# Altium schematic symbol library Solar-Charger.SchLib: 37 symbols
Pins are listed as number, name and electrical type; pins without a type are passive.

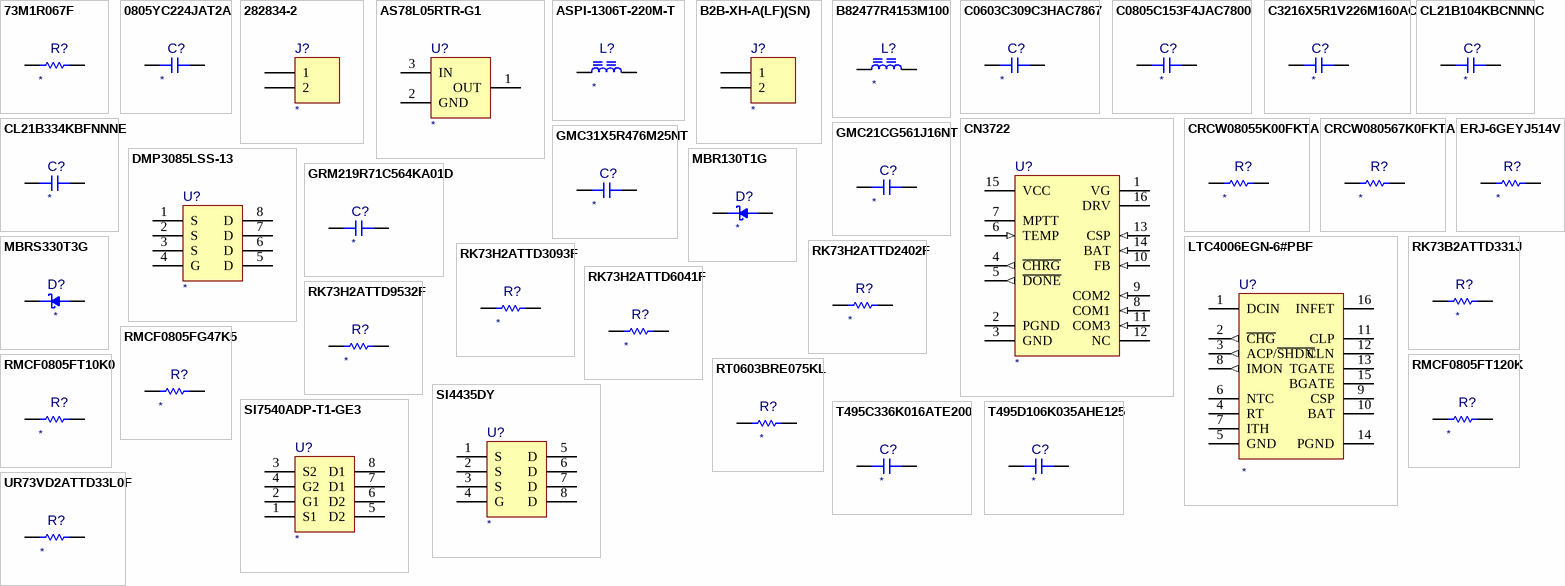
[diagram p0: symbols 73M1R067F to UR73VD2ATTD33L0F]

## 73M1R067F
designator R?
67 mOhms ±1% 1W Chip Resistor; Manufacturer: CTS Resistor Products; Value: *; Voltage: *; Tolerance: *; ComponentLink1Description: Datasheet; ComponentLink1URL: https://www.ctscorp.com/wp-content/uploads/73M1.pdf; Current Rating: *; Part Number: *
footprint RESC620310X120N (Chip Resistor, 2-Leads, Body 2.05x1.25mm, IPC Medium Density)
pins: 1, 2

## 0805YC224JAT2A
designator C?
0.22 µF ±5% 16V Ceramic Capacitor X7R; Manufacturer: KYOCERA AVX; Value: *; Voltage: *; Tolerance: *; ComponentLink1Description: Datasheet; ComponentLink1URL: https://datasheets.kyocera-avx.com/X7RDielectric.pdf; Current Rating: *; Part Number: *
footprint CAPC201125X094N (0805) (Chip Capacitor, 2-Leads, Body 2.01x1.25mm, IPC Medium Density)
pins: 1, 2

## 282834-2
designator J?
2 Position Wire to Board Terminal Block Horizontal with Board 0.100" (2.54mm) Through Hole; Manufacturer: TE Connectivity AMP Connectors; Value: *; Voltage: *; Tolerance: *; ComponentLink1Description: Datasheet; ComponentLink1URL: https://www.te.com/commerce/DocumentDelivery/DDEController?Action=srchrtrv&DocNm=282834&DocType=Customer+Drawing&DocLang=English; Current Rating: *; Part Number: *
footprint 282834-2 (2 Position Wire to Board Terminal Block Horizontal with Board 0.100" (2.54mm) Through Hole)
pins: 1, 2

## AS78L05RTR-G1
designator U?
Linear Voltage Regulator IC Positive Fixed 1 Output 100mA; Manufacturer: Diodes Incorporated; Value: *; Voltage: *; Tolerance: *; ComponentLink1Description: Datasheet; ComponentLink1URL: https://media.digikey.com/pdf/Data%20Sheets/Diodes%20PDFs/AS78Lxx_Aug2013_DS.pdf; Current Rating: *; Part Number: *
footprint SOT150P288X160-3N (SOT89) (SOT89, 3-Leads, Body 4.50x2.45mm, Pitch 1.50mm, Lead Span 2.9mm, IPC Medium Density)
pins: 1 OUT (power), 2 GND (power), 3 IN (power)

## ASPI-1306T-220M-T
designator L?
22 µH Unshielded Wirewound Inductor 3.5 A 47mOhm Max Nonstandard; Manufacturer: Abracon LLC; Value: *; Voltage: *; Tolerance: *; ComponentLink1Description: Datasheet; ComponentLink1URL: https://abracon.com/Magnetics/power/ASPI-1306T.pdf; Current Rating: *; Part Number: *
footprint INDC185152X711N (Chip Inductor, 2-Leads, Body 2.01x1.25mm, IPC Medium Density)
pins: 1, 2

## B2B-XH-A(LF)(SN)
designator J?
Connector Header Through Hole 2 position 0.098" (2.50mm); Manufacturer: JST Sales America Inc.; Value: *; Voltage: *; Tolerance: *; ComponentLink1Description: Datasheet; ComponentLink1URL: https://www.jst-mfg.com/product/pdf/eng/eXH.pdf; Current Rating: *; Part Number: *
footprint B2B-XH-A(LF)(SN) (Connector Header Through Hole 2 position 0.098" (2.50mm))
pins: 1, 2

## B82477R4153M100
designator L?
15 µH Shielded Wirewound Inductor 5 A 27mOhm Max; Manufacturer: Bourns Inc.; Value: *; Voltage: *; Tolerance: *; ComponentLink1Description: Datasheet; ComponentLink1URL: https://www.bourns.com/docs/Product-Datasheets/SRR1260.pdf; Current Rating: *; Part Number: *
footprint INDP125125X65N (Precision Wire Wound Inductor, 2-Leads, Body 12.50x12.50mm, IPC Medium Density)
pins: 1, 2

## C0603C309C3HAC7867
designator C?
3 pF ±0.25pF 25V Ceramic Capacitor; Manufacturer: KEMET; Value: *; Voltage: *; Tolerance: *; ComponentLink1Description: Datasheet; ComponentLink1URL: https://api.kemet.com/component-edge/download/datasheet/C0603C309C3HAC7867.pdf; Current Rating: *; Part Number: *
footprint CAPC160080X087N (0603) (Chip Capacitor, 2-Leads, Body 1.60x0.80mm, IPC Medium Density)
pins: 1, 2

## C0805C153F4JAC7800
designator C?
0.015 µF ±1% 16V Ceramic Capacitor U2J; Manufacturer: KEMET; Value: *; Voltage: *; Tolerance: *; ComponentLink1Description: Datasheet; ComponentLink1URL: https://api.kemet.com/component-edge/download/datasheet/C0805C153F4JAC7800.pdf; Current Rating: *; Part Number: *
footprint CAPC200125X088N (0805) (Chip Capacitor, 2-Leads, Body 2.00x1.25mm, IPC Medium Density)
pins: 1, 2

## C3216X5R1V226M160AC
designator C?
22 µF ±20% 35V Ceramic Capacitor X5R; Manufacturer: TDK Corporation; Value: *; Voltage: *; Tolerance: *; ComponentLink1Description: Datasheet; ComponentLink1URL: https://product.tdk.com/system/files/dam/doc/product/capacitor/ceramic/mlcc/catalog/mlcc_commercial_general_en.pdf?ref_disty=digikey; Current Rating: *; Part Number: *
footprint CAPC320160X180N_A (1206) (Chip Capacitor, 2-Leads, Body 3.20x1.60mm, IPC Medium Density)
pins: 1, 2

## CL21B104KBCNNNC
designator C?
0.1 µF ±10% 50V Ceramic Capacitor X7R; Manufacturer: Samsung Electro-Mechanics; Value: *; Voltage: *; Tolerance: *; ComponentLink1Description: Datasheet; ComponentLink1URL: https://media.digikey.com/pdf/Data%20Sheets/Samsung%20PDFs/CL21B104KBCNNN_Spec.pdf; Current Rating: *; Part Number: *
footprint CAPC200125X094N (0805) (Chip Capacitor, 2-Leads, Body 2.00x1.25mm, IPC Medium Density)
pins: 1, 2

## CL21B334KBFNNNE
designator C?
CAP CER 0.33UF 50V X7R 0805; Manufacturer: Samsung Electro-Mechanics; Value: *; Voltage: *; Tolerance: *; ComponentLink1Description: Datasheet; ComponentLink1URL: https://media.digikey.com/pdf/Data%20Sheets/Samsung%20PDFs/CL21B334KBFNNNE_Spec.pdf; Current Rating: *; Part Number: *
footprint CAPC200125X135N (0805) (Chip Capacitor, 2-Leads, Body 2.00x1.25mm, IPC Medium Density)
pins: 1, 2

## CN3722
designator U?
5A, Multi-Chemistry Battery Charger IC / With Photovoltaic Cell MPPT Function; Manufacturer: CONSONANCE; Value: *; Voltage: *; Tolerance: *; ComponentLink1Description: Datasheet; ComponentLink1URL: http://www.consonance-elec.com/pdf/datasheet/DSE-CN3722.pdf; Current Rating: *; Part Number: *
footprint TSOP065P640X110-16N (TSOP, 16-Leads, Body 5.00x4.40mm, Pitch 0.65mm, IPC Medium Density)
pins: 1 VG, 2 PGND (power), 3 GND (power), 4 ~{CHRG} (out), 5 ~{DONE} (out), 6 TEMP (in), 7 MPTT, 8 COM1 (in), 9 COM2 (in), 10 FB (in), 11 COM3 (in), 12 NC, 13 CSP (in), 14 BAT (in), 15 VCC (power), 16 DRV

## CRCW08055K00FKTA
designator R?
5 kOhms ±1% 0.125W, 1/8W Chip Resistor; Manufacturer: Vishay Dale; Value: *; Voltage: *; Tolerance: *; ComponentLink1Description: Datasheet; ComponentLink1URL: https://www.vishay.com/docs/20008/dcrcw.pdf; Current Rating: *; Part Number: *
footprint RESC205125X050N (0805) (Chip Resistor, 2-Leads, Body 2.05x1.25mm, IPC Medium Density)
pins: 1, 2

## CRCW080567K0FKTA
designator R?
67 kOhms ±1% 0.125W, 1/8W Chip Resistor; Manufacturer: Vishay Dale; Value: *; Voltage: *; Tolerance: *; ComponentLink1Description: Datasheet; ComponentLink1URL: https://www.vishay.com/docs/20008/dcrcw.pdf; Current Rating: *; Part Number: *
footprint RESC205125X050N (0805) (Chip Resistor, 2-Leads, Body 2.05x1.25mm, IPC Medium Density)
pins: 1, 2

## DMP3085LSS-13
designator U?
MOSFET P-CH 30V 3.8A; Manufacturer: Diodes Incorporated; Value: *; Voltage: *; Tolerance: *; ComponentLink1Description: Datasheet; ComponentLink1URL: https://www.diodes.com/assets/Datasheets/DMP3085LSS.pdf; Current Rating: *; Part Number: *
footprint SOIC127P600X175-8N (SOIC, 8-Leads, Body 4.90x3.90mm, Pitch 1.27mm, IPC Medium Density)
pins: 1 S, 2 S, 3 S, 4 G, 5 D, 6 D, 7 D, 8 D

## ERJ-6GEYJ514V
designator R?
510 kOhms ±5% 0.125W, 1/8W Chip Resistor; Manufacturer: Panasonic Electronic Components; Value: *; Voltage: *; Tolerance: *; ComponentLink1Description: Datasheet; ComponentLink1URL: https://industrial.panasonic.com/ww/products/pt/general-purpose-chip-resistors/models/ERJ6GEYJ514V; Current Rating: *; Part Number: *
footprint RESC200125X070N (0805) (Chip Resistor, 2-Leads, Body 2.00x1.25mm, IPC Medium Density)
pins: 1, 2

## GMC21CG561J16NT
designator C?
560 pF ±5% 16V Ceramic Capacitor C0G, NP0; Manufacturer: CAL-CHIP ELECTRONICS, INC.; Value: *; Voltage: *; Tolerance: *; ComponentLink1Description: Datasheet; ComponentLink1URL: http://www.calchipelectronics.com/pdf/gmc_series.pdf; Current Rating: *; Part Number: *
footprint CAPC200125X094N (0805) (Chip Capacitor, 2-Leads, Body 2.00x1.25mm, IPC Medium Density)
pins: 1, 2

## GMC31X5R476M25NT
designator C?
47 µF ±20% 25V Ceramic Capacitor; Manufacturer: CAL-CHIP ELECTRONICS, INC.; Value: *; Voltage: *; Tolerance: *; ComponentLink1Description: Datasheet; ComponentLink1URL: http://www.calchipelectronics.com/pdf/gmc_series.pdf; Current Rating: *; Part Number: *
footprint CAPC320160X180N (1206) (Chip Capacitor, 2-Leads, Body 3.20x1.60mm, IPC Medium Density)
pins: 1, 2

## GRM219R71C564KA01D
designator C?
0.56 µF ±10% 16V Ceramic Capacitor X7R; Manufacturer: Murata Electronics; Value: *; Voltage: *; Tolerance: *; ComponentLink1Description: Datasheet; ComponentLink1URL: https://www.murata.com/-/media/webrenewal/support/library/catalog/products/capacitor/ceramiccapacitor/c02e.ashx?la=en-us&cvid=20210120024548000000; Current Rating: *; Part Number: *
footprint CAPC200125X095N (0805) (Chip Capacitor, 2-Leads, Body 2.00x1.25mm, IPC Medium Density)
pins: 1, 2

## LTC4006EGN-6#PBF
designator U?
IC BATT CHG LI-ION 2CELL; Manufacturer: Analog Devices Inc.; Value: *; Voltage: *; Tolerance: *; ComponentLink1Description: Datasheet; ComponentLink1URL: https://www.analog.com/media/en/technical-documentation/data-sheets/4006fa.pdf; Current Rating: *; Part Number: *
footprint SOP064P600X175-16N (SOP, 16-Leads, Body 4.89x3.90mm, Pitch 0.64mm, IPC Medium Density)
pins: 1 DCIN (power), 2 ~{CHG} (out), 3 ACP/~{SHDN} (out), 4 RT, 5 GND (power), 6 NTC, 7 ITH, 8 IMON (out), 9 CSP, 10 BAT, 11 CLP, 12 CLN, 13 TGATE, 14 PGND (power), 15 BGATE, 16 INFET

## MBR130T1G
designator D?
Diode Schottky 30 V 1A Surface Mount; Manufacturer: onsemi; Value: *; Voltage: *; Tolerance: *; ComponentLink1Description: Datasheet; ComponentLink1URL: https://www.onsemi.com/pdf/datasheet/mbr130t1-d.pdf; Current Rating: *; Part Number: *
footprint DIOC269160X135N (SOD 123) (Chip Diode, 2-Leads, Body 2.00x1.25mm, IPC Medium Density)
pins: 1 K, 2 A

## MBRS330T3G
designator D?
Diode Schottky 30 V 4A; Manufacturer: onsemi; Value: *; Voltage: *; Tolerance: *; ComponentLink1Description: Datasheet; ComponentLink1URL: https://www.onsemi.com/pdf/datasheet/mbrs340t3-d.pdf; Current Rating: *; Part Number: *
footprint DIOC3216X180N (Chip Diode, 2-Leads, Body 3.20x1.60mm, IPC Medium Density)
pins: 1 K, 2 A

## RK73B2ATTD331J
designator R?
330 Ohms ±5% 0.25W, 1/4W Chip Resistor; Manufacturer: KOA Speer Electronics, Inc.; Value: *; Voltage: *; Tolerance: *; ComponentLink1Description: Datasheet; ComponentLink1URL: https://www.koaspeer.com/pdfs/RK73B.pdf; Current Rating: *; Part Number: *
footprint RESC200125X060N (0805) (Chip Resistor, 2-Leads, Body 2.00x1.25mm, IPC Medium Density)
pins: 1, 2

## RK73H2ATTD2402F
designator R?
24 kOhms ±1% 0.25W, 1/4W Chip Resistor; Manufacturer: KOA Speer Electronics, Inc.; Value: *; Voltage: *; Tolerance: *; ComponentLink1Description: Datasheet; ComponentLink1URL: https://www.koaspeer.com/pdfs/RK73H.pdf; Current Rating: *; Part Number: *
footprint RESC200125X065N_A (0805) (Chip Resistor, 2-Leads, Body 2.00x1.25mm, IPC Medium Density)
pins: 1, 2

## RK73H2ATTD3093F
designator R?
309 kOhms ±1% 0.25W, 1/4W Chip Resistor; Manufacturer: KOA Speer Electronics, Inc.; Value: *; Voltage: *; Tolerance: *; ComponentLink1Description: Datasheet; ComponentLink1URL: https://www.koaspeer.com/pdfs/RK73H.pdf; Current Rating: *; Part Number: *
footprint RESC200125X065N_A (0805) (Chip Resistor, 2-Leads, Body 2.00x1.25mm, IPC Medium Density)
pins: 1, 2

## RK73H2ATTD6041F
designator R?
6.04 kOhms ±1% 0.25W, 1/4W Chip Resistor; Manufacturer: KOA Speer Electronics, Inc.; Value: *; Voltage: *; Tolerance: *; ComponentLink1Description: Datasheet; ComponentLink1URL: https://www.koaspeer.com/pdfs/RK73H.pdf; Current Rating: *; Part Number: *
footprint RESC200125X065N_A (0805) (Chip Resistor, 2-Leads, Body 2.00x1.25mm, IPC Medium Density)
pins: 1, 2

## RK73H2ATTD9532F
designator R?
95.3 kOhms ±1% 0.25W, 1/4W Chip Resistor; Manufacturer: KOA Speer Electronics, Inc.; Value: *; Voltage: *; Tolerance: *; ComponentLink1Description: Datasheet; ComponentLink1URL: https://www.koaspeer.com/pdfs/RK73H.pdf; Current Rating: *; Part Number: *
footprint RESC200125X065N_A (0805) (Chip Resistor, 2-Leads, Body 2.00x1.25mm, IPC Medium Density)
pins: 1, 2

## RMCF0805FG47K5
designator R?
47.5 kOhms ±1% 0.125W, 1/8W; Manufacturer: Stackpole Electronics Inc; ComponentLink1Description: Datasheet; ComponentLink1URL: https://www.seielect.com/catalog/sei-rmcf_rmcp.pdf; Value: *; Voltage: *; Tolerance: *; Current Rating: *; Part Number: *
footprint RESC200125X065N (0805) (Chip Resistor, 2-Leads, Body 2.00x1.25mm, IPC Medium Density)
pins: 1, 2

## RMCF0805FT10K0
designator R?
RES 10K OHM 1% 1/8W; Manufacturer: Stackpole Electronics Inc; Value: *; Voltage: *; Tolerance: *; ComponentLink1Description: Datasheet; ComponentLink1URL: https://www.seielect.com/catalog/sei-rmcf_rmcp.pdf; Current Rating: *; Part Number: *
footprint RESC200125X065N (0805) (Chip Resistor, 2-Leads, Body 2.00x1.25mm, IPC Medium Density)
pins: 1, 2

## RMCF0805FT120K
designator R?
120 kOhms ±1% 0.125W, 1/8W Chip Resistor; Manufacturer: Stackpole Electronics Inc; Value: *; Voltage: *; Tolerance: *; ComponentLink1Description: Datasheet; ComponentLink1URL: https://www.seielect.com/catalog/sei-rmcf_rmcp.pdf; Current Rating: *; Part Number: *
footprint RESC200125X065N (0805) (Chip Resistor, 2-Leads, Body 2.00x1.25mm, IPC Medium Density)
pins: 1, 2

## RT0603BRE075KL
designator R?
5 kOhms ±0.1% 0.1W, 1/10W Chip Resistor; Manufacturer: YAGEO; Value: *; Voltage: *; Tolerance: *; ComponentLink1Description: Datasheet; ComponentLink1URL: https://www.yageo.com/upload/media/product/productsearch/datasheet/rchip/PYu-RT_1-to-0.01_RoHS_L_12.pdf; Current Rating: *; Part Number: *
footprint RESC160075X055N (0603) (Chip Resistor, 2-Leads, Body 1.60x0.75mm, IPC Medium Density)
pins: 1, 2

## SI4435DY
designator U?
P-Channel 30 V 8.8A (Ta) 2.5W (Ta) Surface Mount; Manufacturer: onsemi; Value: *; Voltage: *; Tolerance: *; ComponentLink1Description: Datasheet; ComponentLink1URL: https://www.onsemi.com/pdf/datasheet/si4435dy-d.pdf; Current Rating: *; Part Number: *
footprint SOIC127P600X175 (SOIC, 8-Leads, Body 4.90x3.90mm, Pitch 1.27mm, IPC Medium Density)
pins: 1 S, 2 S, 3 S, 4 G, 5 D, 6 D, 7 D, 8 D

## SI7540ADP-T1-GE3
designator U?
Mosfet Array N and P-Channel 20V 12A, 9A 3.5W; Manufacturer: Vishay Siliconix; Value: *; Voltage: *; Tolerance: *; ComponentLink1Description: Datasheet; ComponentLink1URL: https://www.vishay.com/docs/62951/si7540adp.pdf; Current Rating: *; Part Number: *
footprint SON127P620X112-8N (SON, 8-Leads, Body 5.15x6.15mm, Pitch 1.27mm, IPC Medium Density)
pins: 1 S1, 2 G1, 3 S2, 4 G2, 5 D2, 6 D2, 7 D1, 8 D1

## T495C336K016ATE200
designator C?
33 µF Molded Tantalum Capacitors 16 V 2312 (6032 Metric) 200mOhm @ 100kHz; Manufacturer: KEMET; Value: *; Voltage: *; Tolerance: *; ComponentLink1Description: Datasheet; ComponentLink1URL: https://api.kemet.com/component-edge/download/datasheet/T495C336K016ATE200.pdf; Current Rating: *; Part Number: *
footprint CAPC730430X060N (2312) (Chip Capacitor, 2-Leads, Body 6.00x3.20mm, IPC Medium Density)
pins: 1, 2

## T495D106K035AHE125
designator C?
10 µF Molded Tantalum Capacitors 35 V; Manufacturer: KEMET; Value: *; Voltage: *; Tolerance: *; ComponentLink1Description: Datasheet; ComponentLink1URL: https://api.kemet.com/component-edge/download/datasheet/T495D106K035AHE125.pdf; Current Rating: *; Part Number: *
footprint CAPC730430X031N (2917) (Chip Capacitor, 2-Leads, Body 7.30x4.30mm, IPC Medium Density)
pins: 1, 2

## UR73VD2ATTD33L0F
designator R?
33 mOhms ±1% 0.5W, 1/2W Chip Resistor; Manufacturer: KOA Speer Electronics, Inc.; Value: *; Voltage: *; Tolerance: *; ComponentLink1Description: Datasheet; ComponentLink1URL: https://www.koaspeer.com/pdfs/UR73V.pdf; Current Rating: *; Part Number: *
footprint RESC200125X070N (0805) (Chip Resistor, 2-Leads, Body 2.00x1.25mm, IPC Medium Density)
pins: 1, 2